# Altium footprint library benpcblib.PcbLib: 3 footprints
Each footprint in its own frame and in the unit in brackets; x right, y up, seen from the top. Pads: shape width x height; smd on the part's side, far side on the other; paste and mask are expansions set on the pad; w line width, h text height; cw(c..) or ccw(c..) is an arc to the next point about the centre after c.
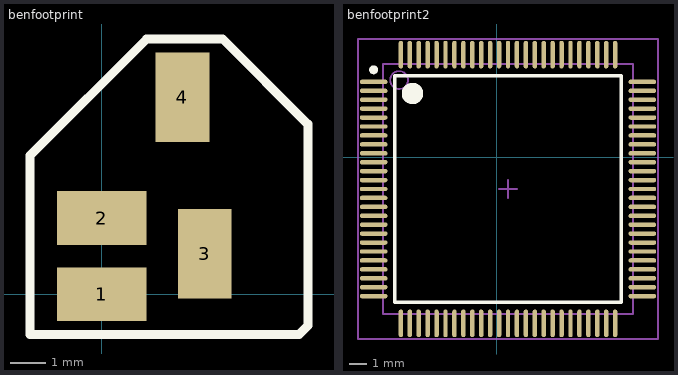
[diagram p0: the footprints below, top view; thin cyan lines are the x and y axes]

## benfootprint [mil] "this is ben's footprint"
pads (4):
  rect 100x60 smd: 1(0,0) 2(0,85)
  rect 60x100 smd: 3(115,45) 4(90,220)
Top Overlay:
  lines w10: -80,-45 220,-45 230,-35 230,190 135,285 50,285 -80,155 -80,-45

## benfootprint2 [mm]
pads (100):
  oval 1.55x0.25 smd: 1(-6.89,4.222) 2(-6.89,3.722) 3(-6.89,3.222) 4(-6.89,2.722) 5(-6.89,2.222) 6(-6.89,1.722) 7(-6.89,1.222) 8(-6.89,0.722) 9(-6.89,0.222) 10(-6.89,-0.278) 11(-6.89,-0.778) 12(-6.89,-1.278) 13(-6.89,-1.778) 14(-6.89,-2.278) 15(-6.89,-2.778) 16(-6.89,-3.278) 17(-6.89,-3.778) 18(-6.89,-4.278) 19(-6.89,-4.778) 20(-6.89,-5.278) 21(-6.89,-5.778) 22(-6.89,-6.278) 23(-6.89,-6.778) 24(-6.89,-7.278) 25(-6.89,-7.778) 51(8.16,-7.778) 52(8.16,-7.278) 53(8.16,-6.778) 54(8.16,-6.278) 55(8.16,-5.778) 56(8.16,-5.278) 57(8.16,-4.778) 58(8.16,-4.278) 59(8.16,-3.778) 60(8.16,-3.278) 61(8.16,-2.778) 62(8.16,-2.278) 63(8.16,-1.778) 64(8.16,-1.278) 65(8.16,-0.778) 66(8.16,-0.278) 67(8.16,0.222) 68(8.16,0.722) 69(8.16,1.222) 70(8.16,1.722) 71(8.16,2.222) 72(8.16,2.722) 73(8.16,3.222) 74(8.16,3.722) 75(8.16,4.222)
  oval 0.25x1.55 smd: 26(-5.365,-9.303) 27(-4.865,-9.303) 28(-4.365,-9.303) 29(-3.865,-9.303) 30(-3.365,-9.303) 31(-2.865,-9.303) 32(-2.365,-9.303) 33(-1.865,-9.303) 34(-1.365,-9.303) 35(-0.865,-9.303) 36(-0.365,-9.303) 37(0.135,-9.303) 38(0.635,-9.303) 39(1.135,-9.303) 40(1.635,-9.303) 41(2.135,-9.303) 42(2.635,-9.303) 43(3.135,-9.303) 44(3.635,-9.303) 45(4.135,-9.303) 46(4.635,-9.303) 47(5.135,-9.303) 48(5.635,-9.303) 49(6.135,-9.303) 50(6.635,-9.303) 76(6.635,5.747) 77(6.135,5.747) 78(5.635,5.747) 79(5.135,5.747) 80(4.635,5.747) 81(4.135,5.747) 82(3.635,5.747) 83(3.135,5.747) 84(2.635,5.747) 85(2.135,5.747) 86(1.635,5.747) 87(1.135,5.747) 88(0.635,5.747) 89(0.135,5.747) 90(-0.365,5.747) 91(-0.865,5.747) 92(-1.365,5.747) 93(-1.865,5.747) 94(-2.365,5.747) 95(-2.865,5.747) 96(-3.365,5.747) 97(-3.865,5.747) 98(-4.365,5.747) 99(-4.865,5.747) 100(-5.365,5.747)
Top Overlay:
  circle w0.6: c-4.715,3.572 r0.3
  circle w0.25: c-6.89,4.897 r0.125
  lines w0.2: -5.715,-8.128 6.985,-8.128 6.985,4.572 -5.715,4.572 -5.715,-8.128
Mechanical 13:
  circle w0.1: c-5.465,4.322 r0.5
  lines w0.1: -6.365,-8.778 7.635,-8.778 7.635,5.222 -6.365,5.222 -6.365,-8.778
Mechanical 15:
  lines w0.1: 0.135,-1.778 1.135,-1.778 ; 0.635,-2.278 0.635,-1.278 ; -7.765,-10.178 9.035,-10.178 9.035,6.622 -7.765,6.622 -7.765,-10.178
3D body: height 1.6, standoff 0, extent -6.365,-8.778 7.635,5.222

## PCBComponent_1 [mm]